# Altium integrated library lib-Switches.IntLib: 1 symbol
Pins are listed as number, name and electrical type; pins without a type are passive.

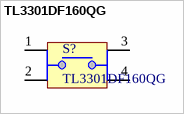
[diagram p0: symbol TL3301DF160QG]

## TL3301DF160QG
designator S?
E-Switch SPST-NO, SMD, 13mm Height; Manufacturer 1: E-Switch; Manufacturer Part Number 1: TL3301DF160QG; Supplier Part Number 1: EG5463CT-ND; Supplier 1: Digikey; ComponentLink1Description: Drawing; ComponentLink1URL: http://spec_sheets.e-switch.com/specs/J100615.pdf; ComponentLink2Description: Datasheet; ComponentLink2URL: https://www.e-switch.com/system/asset/product_line/data_sheet/158/TL3301.pdf
footprint TL3301DF160QG (e-switch TL3301DF160QG)
pins: 1, 2, 3, 4